# EAGLE library part OSDZU3EG1-2G-BFA (library Octavo-Systems OSDZU3)
Octavo Systems LLC OSDZU3x Family SiP; 20.5mm x 40mm, 1mm pitch 600 pin BGA contains Xilinx XCZU3EG1, 2GB DDR4, two IRPS5401, 32MB QSPI NOR Flash (3.3V), MEMS Oscillator, RTC Crystal and passives; Commercial Temperature (case): 0C to 85C.
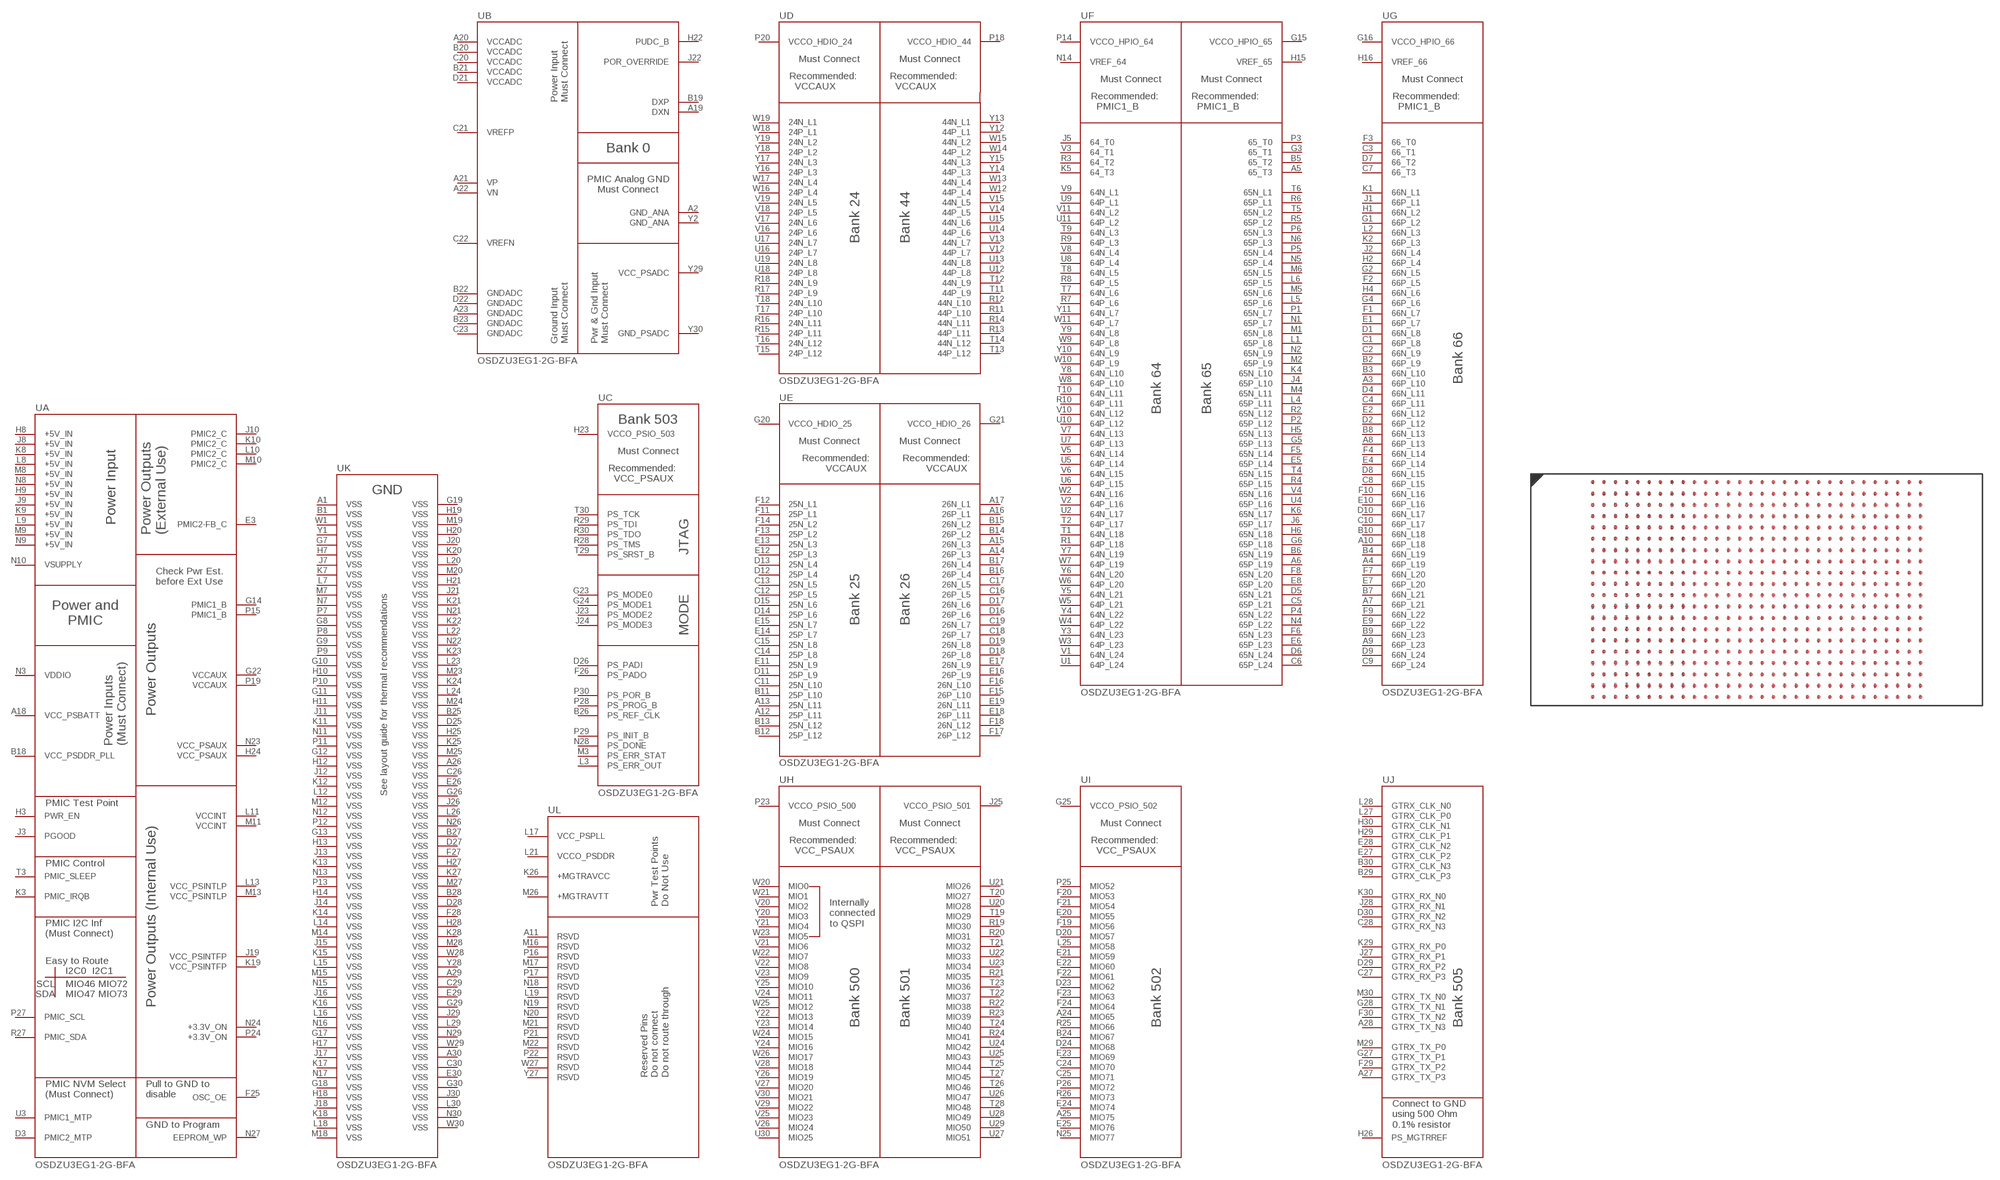
[diagram p12: symbol with the pads of OSDZU3X-BGA-600; footprint OSDZU3X-BGA-600]

Designator prefix U; gates A=OSDZU3X-LOGICAL-A B=OSDZU3X-LOGICAL-B C=OSDZU3X-LOGICAL-C D=OSDZU3X-LOGICAL-D E=OSDZU3X-LOGICAL-E F=OSDZU3X-LOGICAL-F G=OSDZU3X-LOGICAL-G H=OSDZU3X-LOGICAL-H I=OSDZU3X-LOGICAL-I J=OSDZU3X-LOGICAL-J K=OSDZU3X-LOGICAL-K L=OSDZU3X-LOGICAL-L

## OSDZU3EG1-2G-BFA  [OSDZU3X-BGA-600]
A1  K:VSS
A2  B:GND_ANA
A3  G:66P_L10
A4  G:66P_L19
A5  F:65_T3
A6  F:65P_L19
A7  G:66P_L21
A8  G:66P_L13
A9  G:66P_L23
A10  G:66P_L18
A11  L:RSVD
A12  E:25P_L11
A13  E:25N_L11
A14  E:26P_L3
A15  E:26N_L3
A16  E:26P_L1
A17  E:26N_L1
A18  A:VCC_PSBATT
A19  B:DXN
A20  B:VCCADC
A21  B:VP
A22  B:VN
A23  B:GNDADC
A24  I:MIO65
A25  I:MIO75
A26  K:VSS
A27  J:GTRX_TX_P3
A28  J:GTRX_TX_N3
A29  K:VSS
A30  K:VSS
B1  K:VSS
B2  G:66P_L9
B3  G:66N_L10
B4  G:66N_L19
B5  F:65_T2
B6  F:65N_L19
B7  G:66N_L21
B8  G:66N_L13
B9  G:66N_L23
B10  G:66N_L18
B11  E:25P_L10
B12  E:25P_L12
B13  E:25N_L12
B14  E:26P_L2
B15  E:26N_L2
B16  E:26P_L4
B17  E:26N_L4
B18  A:VCC_PSDDR_PLL
B19  B:DXP
B20  B:VCCADC
B21  B:VCCADC
B22  B:GNDADC
B23  B:GNDADC
B24  I:MIO67
B25  K:VSS
B26  C:PS_REF_CLK
B27  K:VSS
B28  K:VSS
B29  J:GTRX_CLK_P3
B30  J:GTRX_CLK_N3
C1  G:66P_L8
C2  G:66N_L9
C3  G:66_T1
C4  G:66P_L11
C5  F:65P_L21
C6  F:65P_L24
C7  G:66_T3
C8  G:66P_L15
C9  G:66P_L24
C10  G:66P_L17
C11  E:25N_L10
C12  E:25P_L5
C13  E:25N_L5
C14  E:25P_L8
C15  E:25N_L8
C16  E:26P_L5
C17  E:26N_L5
C18  E:26P_L7
C19  E:26N_L7
C20  B:VCCADC
C21  B:VREFP
C22  B:VREFN
C23  B:GNDADC
C24  I:MIO70
C25  I:MIO71
C26  K:VSS
C27  J:GTRX_RX_P3
C28  J:GTRX_RX_N3
C29  K:VSS
C30  K:VSS
D1  G:66N_L8
D2  G:66P_L12
D3  A:PMIC2_MTP
D4  G:66N_L11
D5  F:65N_L21
D6  F:65N_L24
D7  G:66_T2
D8  G:66N_L15
D9  G:66N_L24
D10  G:66N_L17
D11  E:25P_L9
D12  E:25P_L4
D13  E:25N_L4
D14  E:25P_L6
D15  E:25N_L6
D16  E:26P_L6
D17  E:26N_L6
D18  E:26P_L8
D19  E:26N_L8
D20  I:MIO57
D21  B:VCCADC
D22  B:GNDADC
D23  I:MIO62
D24  I:MIO68
D25  K:VSS
D26  C:PS_PADI
D27  K:VSS
D28  K:VSS
D29  J:GTRX_RX_P2
D30  J:GTRX_RX_N2
E1  G:66P_L7
E2  G:66N_L12
E3  A:PMIC2-FB_C
E4  G:66P_L14
E5  F:65P_L14
E6  F:65P_L23
E7  G:66P_L20
E8  F:65P_L20
E9  G:66P_L22
E10  G:66P_L16
E11  E:25N_L9
E12  E:25P_L3
E13  E:25N_L3
E14  E:25P_L7
E15  E:25N_L7
E16  E:26P_L9
E17  E:26N_L9
E18  E:26P_L11
E19  E:26N_L11
E20  I:MIO55
E21  I:MIO59
E22  I:MIO60
E23  I:MIO69
E24  I:MIO74
E25  I:MIO76
E26  K:VSS
E27  J:GTRX_CLK_P2
E28  J:GTRX_CLK_N2
E29  K:VSS
E30  K:VSS
F1  G:66N_L7
F2  G:66P_L5
F3  G:66_T0
F4  G:66N_L14
F5  F:65N_L14
F6  F:65N_L23
F7  G:66N_L20
F8  F:65N_L20
F9  G:66N_L22
F10  G:66N_L16
F11  E:25P_L1
F12  E:25N_L1
F13  E:25P_L2
F14  E:25N_L2
F15  E:26P_L10
F16  E:26N_L10
F17  E:26P_L12
F18  E:26N_L12
F19  I:MIO56
F20  I:MIO53
F21  I:MIO54
F22  I:MIO61
F23  I:MIO63
F24  I:MIO64
F25  A:OSC_OE
F26  C:PS_PADO
F27  K:VSS
F28  K:VSS
F29  J:GTRX_TX_P2
F30  J:GTRX_TX_N2
G1  G:66P_L2
G2  G:66N_L5
G3  F:65_T1
G4  G:66P_L6
G5  F:65P_L13
G6  F:65P_L18
G7  K:VSS
G8  K:VSS
G9  K:VSS
G10  K:VSS
G11  K:VSS
G12  K:VSS
G13  K:VSS
G14  A:PMIC1_B
G15  F:VCCO_HPIO_65
G16  G:VCCO_HPIO_66
G17  K:VSS
G18  K:VSS
G19  K:VSS
G20  E:VCCO_HDIO_25
G21  E:VCCO_HDIO_26  pwr
G22  A:VCCAUX
G23  C:PS_MODE0
G24  C:PS_MODE1
G25  I:VCCO_PSIO_502
G26  K:VSS
G27  J:GTRX_TX_P1
G28  J:GTRX_TX_N1
G29  K:VSS
G30  K:VSS
H1  G:66N_L2
H2  G:66P_L4
H3  A:PWR_EN
H4  G:66N_L6
H5  F:65N_L13
H6  F:65N_L18
H7  K:VSS
H8  A:+5V_IN
H9  A:+5V_IN
H10  K:VSS
H11  K:VSS
H12  K:VSS
H13  K:VSS
H14  K:VSS
H15  F:VREF_65
H16  G:VREF_66
H17  K:VSS
H18  K:VSS
H19  K:VSS
H20  K:VSS
H21  K:VSS
H22  B:PUDC_B
H23  C:VCCO_PSIO_503
H24  A:VCC_PSAUX
H25  K:VSS
H26  J:PS_MGTRREF
H27  K:VSS
H28  K:VSS
H29  J:GTRX_CLK_P1
H30  J:GTRX_CLK_N1
J1  G:66P_L1
J2  G:66N_L4
J3  A:PGOOD
J4  F:65P_L10
J5  F:64_T0
J6  F:65P_L17
J7  K:VSS
J8  A:+5V_IN
J9  A:+5V_IN
J10  A:PMIC2_C
J11  K:VSS
J12  K:VSS
J13  K:VSS
J14  K:VSS
J15  K:VSS
J16  K:VSS
J17  K:VSS
J18  K:VSS
J19  A:VCC_PSINTFP
J20  K:VSS
J21  K:VSS
J22  B:POR_OVERRIDE
J23  C:PS_MODE2
J24  C:PS_MODE3
J25  H:VCCO_PSIO_501
J26  K:VSS
J27  J:GTRX_RX_P1
J28  J:GTRX_RX_N1
J29  K:VSS
J30  K:VSS
K1  G:66N_L1
K2  G:66P_L3
K3  A:PMIC_IRQB
K4  F:65N_L10
K5  F:64_T3
K6  F:65N_L17
K7  K:VSS
K8  A:+5V_IN
K9  A:+5V_IN
K10  A:PMIC2_C
K11  K:VSS
K12  K:VSS
K13  K:VSS
K14  K:VSS
K15  K:VSS
K16  K:VSS
K17  K:VSS
K18  K:VSS
K19  A:VCC_PSINTFP
K20  K:VSS
K21  K:VSS
K22  K:VSS
K23  K:VSS
K24  K:VSS
K25  K:VSS
K26  L:+MGTRAVCC
K27  K:VSS
K28  K:VSS
K29  J:GTRX_RX_P0
K30  J:GTRX_RX_N0
L1  F:65P_L8
L2  G:66N_L3
L3  C:PS_ERR_OUT
L4  F:65P_L11
L5  F:65P_L6
L6  F:65P_L5
L7  K:VSS
L8  A:+5V_IN
L9  A:+5V_IN
L10  A:PMIC2_C
L11  A:VCCINT
L12  K:VSS
L13  A:VCC_PSINTLP
L14  K:VSS
L15  K:VSS
L16  K:VSS
L17  L:VCC_PSPLL
L18  K:VSS
L19  L:RSVD
L20  K:VSS
L21  L:VCCO_PSDDR
L22  K:VSS
L23  K:VSS
L24  K:VSS
L25  I:MIO58
L26  K:VSS
L27  J:GTRX_CLK_P0
L28  J:GTRX_CLK_N0
L29  K:VSS
L30  K:VSS
M1  F:65N_L8
M2  F:65P_L9
M3  C:PS_ERR_STAT
M4  F:65N_L11
M5  F:65N_L6
M6  F:65N_L5
M7  K:VSS
M8  A:+5V_IN
M9  A:+5V_IN
M10  A:PMIC2_C
M11  A:VCCINT
M12  K:VSS
M13  A:VCC_PSINTLP
M14  K:VSS
M15  K:VSS
M16  L:RSVD
M17  L:RSVD
M18  K:VSS
M19  K:VSS
M20  K:VSS
M21  L:RSVD
M22  L:RSVD
M23  K:VSS
M24  K:VSS
M25  K:VSS
M26  L:+MGTRAVTT
M27  K:VSS
M28  K:VSS
M29  J:GTRX_TX_P0
M30  J:GTRX_TX_N0
N1  F:65P_L7
N2  F:65N_L9
N3  A:VDDIO
N4  F:65P_L22
N5  F:65P_L4
N6  F:65P_L3
N7  K:VSS
N8  A:+5V_IN
N9  A:+5V_IN
N10  A:VSUPPLY
N11  K:VSS
N12  K:VSS
N13  K:VSS
N14  F:VREF_64
N15  K:VSS
N16  K:VSS
N17  K:VSS
N18  L:RSVD
N19  L:RSVD
N20  L:RSVD
N21  K:VSS
N22  K:VSS
N23  A:VCC_PSAUX
N24  A:+3.3V_ON
N25  I:MIO77
N26  K:VSS
N27  A:EEPROM_WP
N28  C:PS_DONE
N29  K:VSS
N30  K:VSS
P1  F:65N_L7
P2  F:65P_L12
P3  F:65_T0
P4  F:65N_L22
P5  F:65N_L4
P6  F:65N_L3
P7  K:VSS
P8  K:VSS
P9  K:VSS
P10  K:VSS
P11  K:VSS
P12  K:VSS
P13  K:VSS
P14  F:VCCO_HPIO_64
P15  A:PMIC1_B
P16  L:RSVD
P17  L:RSVD
P18  D:VCCO_HDIO_44
P19  A:VCCAUX
P20  D:VCCO_HDIO_24  pwr
P21  L:RSVD
P22  L:RSVD
P23  H:VCCO_PSIO_500
P24  A:+3.3V_ON
P25  I:MIO52
P26  I:MIO72
P27  A:PMIC_SCL
P28  C:PS_PROG_B
P29  C:PS_INIT_B
P30  C:PS_POR_B
R1  F:64P_L18
R2  F:65N_L12
R3  F:64_T2
R4  F:65P_L15
R5  F:65P_L2
R6  F:65P_L1
R7  F:64P_L6
R8  F:64P_L5
R9  F:64P_L3
R10  F:64P_L11
R11  D:44P_L10
R12  D:44N_L10
R13  D:44P_L11
R14  D:44N_L11
R15  D:24P_L11
R16  D:24N_L11
R17  D:24P_L9
R18  D:24N_L9
R19  H:MIO30
R20  H:MIO31
R21  H:MIO35
R22  H:MIO38
R23  H:MIO39
R24  H:MIO41
R25  I:MIO66
R26  I:MIO73
R27  A:PMIC_SDA
R28  C:PS_TMS
R29  C:PS_TDI
R30  C:PS_TDO
T1  F:64N_L18
T2  F:64P_L17
T3  A:PMIC_SLEEP
T4  F:65N_L15
T5  F:65N_L2
T6  F:65N_L1
T7  F:64N_L6
T8  F:64N_L5
T9  F:64N_L3
T10  F:64N_L11
T11  D:44P_L9
T12  D:44N_L9
T13  D:44P_L12
T14  D:44N_L12
T15  D:24P_L12
T16  D:24N_L12
T17  D:24P_L10
T18  D:24N_L10
T19  H:MIO29
T20  H:MIO27
T21  H:MIO32
T22  H:MIO37
T23  H:MIO36
T24  H:MIO40
T25  H:MIO44
T26  H:MIO46
T27  H:MIO45
T28  H:MIO48
T29  C:PS_SRST_B
T30  C:PS_TCK
U1  F:64P_L24
U2  F:64N_L17
U3  A:PMIC1_MTP
U4  F:65P_L16
U5  F:64P_L14
U6  F:64P_L15
U7  F:64P_L13
U8  F:64P_L4
U9  F:64P_L1
U10  F:64P_L12
U11  F:64P_L2
U12  D:44P_L8
U13  D:44N_L8
U14  D:44P_L6
U15  D:44N_L6
U16  D:24P_L7
U17  D:24N_L7
U18  D:24P_L8
U19  D:24N_L8
U20  H:MIO28
U21  H:MIO26
U22  H:MIO33
U23  H:MIO34
U24  H:MIO42
U25  H:MIO43
U26  H:MIO47
U27  H:MIO51
U28  H:MIO49
U29  H:MIO50
U30  H:MIO25
V1  F:64N_L24
V2  F:64P_L16
V3  F:64_T1
V4  F:65N_L16
V5  F:64N_L14
V6  F:64N_L15
V7  F:64N_L13
V8  F:64N_L4
V9  F:64N_L1
V10  F:64N_L12
V11  F:64N_L2
V12  D:44P_L7
V13  D:44N_L7
V14  D:44P_L5
V15  D:44N_L5
V16  D:24P_L6
V17  D:24N_L6
V18  D:24P_L5
V19  D:24N_L5
V20  H:MIO2
V21  H:MIO6
V22  H:MIO8
V23  H:MIO9
V24  H:MIO11
V25  H:MIO23
V26  H:MIO24
V27  H:MIO20
V28  H:MIO18
V29  H:MIO22
V30  H:MIO21
W1  K:VSS
W2  F:64N_L16
W3  F:64P_L23
W4  F:64P_L22
W5  F:64P_L21
W6  F:64P_L20
W7  F:64P_L19
W8  F:64P_L10
W9  F:64P_L8
W10  F:64P_L9
W11  F:64P_L7
W12  D:44P_L4
W13  D:44N_L4
W14  D:44P_L2
W15  D:44N_L2
W16  D:24P_L4
W17  D:24N_L4
W18  D:24P_L1
W19  D:24N_L1
W20  H:MIO0
W21  H:MIO1
W22  H:MIO7
W23  H:MIO5
W24  H:MIO15
W25  H:MIO12
W26  H:MIO17
W27  L:RSVD
W28  K:VSS
W29  K:VSS
W30  K:VSS
Y1  K:VSS
Y2  B:GND_ANA
Y3  F:64N_L23
Y4  F:64N_L22
Y5  F:64N_L21
Y6  F:64N_L20
Y7  F:64N_L19
Y8  F:64N_L10
Y9  F:64N_L8
Y10  F:64N_L9
Y11  F:64N_L7
Y12  D:44P_L1
Y13  D:44N_L1
Y14  D:44P_L3
Y15  D:44N_L3
Y16  D:24P_L3
Y17  D:24N_L3
Y18  D:24P_L2
Y19  D:24N_L2
Y20  H:MIO3
Y21  H:MIO4
Y22  H:MIO13
Y23  H:MIO14
Y24  H:MIO16
Y25  H:MIO10
Y26  H:MIO19
Y27  L:RSVD
Y28  K:VSS
Y29  B:VCC_PSADC
Y30  B:GND_PSADC

## Footprint OSDZU3X-BGA-600 (pad centres in mm)
smd 0.35 x 0.35: A1 -14.5,9.5; A2 -13.5,9.5; A3 -12.5,9.5; A4 -11.5,9.5; A5 -10.5,9.5; A6 -9.5,9.5; A7 -8.5,9.5; A8 -7.5,9.5; A9 -6.5,9.5; A10 -5.5,9.5; A11 -4.5,9.5; A12 -3.5,9.5; A13 -2.5,9.5; A14 -1.5,9.5; A15 -0.5,9.5; A16 0.5,9.5; A17 1.5,9.5; A18 2.5,9.5; A19 3.5,9.5; A20 4.5,9.5; A21 5.5,9.5; A22 6.5,9.5; A23 7.5,9.5; A24 8.5,9.5; A25 9.5,9.5; A26 10.5,9.5; A27 11.5,9.5; A28 12.5,9.5; A29 13.5,9.5; A30 14.5,9.5; B1 -14.5,8.5; B2 -13.5,8.5; B3 -12.5,8.5; B4 -11.5,8.5; B5 -10.5,8.5; B6 -9.5,8.5; B7 -8.5,8.5; B8 -7.5,8.5; B9 -6.5,8.5; B10 -5.5,8.5; B11 -4.5,8.5; B12 -3.5,8.5; B13 -2.5,8.5; B14 -1.5,8.5; B15 -0.5,8.5; B16 0.5,8.5; B17 1.5,8.5; B18 2.5,8.5; B19 3.5,8.5; B20 4.5,8.5; B21 5.5,8.5; B22 6.5,8.5; B23 7.5,8.5; B24 8.5,8.5; B25 9.5,8.5; B26 10.5,8.5; B27 11.5,8.5; B28 12.5,8.5; B29 13.5,8.5; B30 14.5,8.5; C1 -14.5,7.5; C2 -13.5,7.5; C3 -12.5,7.5; C4 -11.5,7.5; C5 -10.5,7.5; C6 -9.5,7.5; C7 -8.5,7.5; C8 -7.5,7.5; C9 -6.5,7.5; C10 -5.5,7.5; C11 -4.5,7.5; C12 -3.5,7.5; C13 -2.5,7.5; C14 -1.5,7.5; C15 -0.5,7.5; C16 0.5,7.5; C17 1.5,7.5; C18 2.5,7.5; C19 3.5,7.5; C20 4.5,7.5; C21 5.5,7.5; C22 6.5,7.5; C23 7.5,7.5; C24 8.5,7.5; C25 9.5,7.5; C26 10.5,7.5; C27 11.5,7.5; C28 12.5,7.5; C29 13.5,7.5; C30 14.5,7.5; D1 -14.5,6.5; D2 -13.5,6.5; D3 -12.5,6.5; D4 -11.5,6.5; D5 -10.5,6.5; D6 -9.5,6.5; D7 -8.5,6.5; D8 -7.5,6.5; D9 -6.5,6.5; D10 -5.5,6.5; D11 -4.5,6.5; D12 -3.5,6.5; D13 -2.5,6.5; D14 -1.5,6.5; D15 -0.5,6.5; D16 0.5,6.5; D17 1.5,6.5; D18 2.5,6.5; D19 3.5,6.5; D20 4.5,6.5; D21 5.5,6.5; D22 6.5,6.5; D23 7.5,6.5; D24 8.5,6.5; D25 9.5,6.5; D26 10.5,6.5; D27 11.5,6.5; D28 12.5,6.5; D29 13.5,6.5; D30 14.5,6.5; E1 -14.5,5.5; E2 -13.5,5.5; E3 -12.5,5.5; E4 -11.5,5.5; E5 -10.5,5.5; E6 -9.5,5.5; E7 -8.5,5.5; E8 -7.5,5.5; E9 -6.5,5.5; E10 -5.5,5.5; E11 -4.5,5.5; E12 -3.5,5.5; E13 -2.5,5.5; E14 -1.5,5.5; E15 -0.5,5.5; E16 0.5,5.5; E17 1.5,5.5; E18 2.5,5.5; E19 3.5,5.5; E20 4.5,5.5; E21 5.5,5.5; E22 6.5,5.5; E23 7.5,5.5; E24 8.5,5.5; E25 9.5,5.5; E26 10.5,5.5; E27 11.5,5.5; E28 12.5,5.5; E29 13.5,5.5; E30 14.5,5.5; F1 -14.5,4.5; F2 -13.5,4.5; F3 -12.5,4.5; F4 -11.5,4.5; F5 -10.5,4.5; F6 -9.5,4.5; F7 -8.5,4.5; F8 -7.5,4.5; F9 -6.5,4.5; F10 -5.5,4.5; F11 -4.5,4.5; F12 -3.5,4.5; F13 -2.5,4.5; F14 -1.5,4.5; F15 -0.5,4.5; F16 0.5,4.5; F17 1.5,4.5; F18 2.5,4.5; F19 3.5,4.5; F20 4.5,4.5; F21 5.5,4.5; F22 6.5,4.5; F23 7.5,4.5; F24 8.5,4.5; F25 9.5,4.5; F26 10.5,4.5; F27 11.5,4.5; F28 12.5,4.5; F29 13.5,4.5; F30 14.5,4.5; G1 -14.5,3.5; G2 -13.5,3.5; G3 -12.5,3.5; G4 -11.5,3.5; G5 -10.5,3.5; G6 -9.5,3.5; G7 -8.5,3.5; G8 -7.5,3.5; G9 -6.5,3.5; G10 -5.5,3.5; G11 -4.5,3.5; G12 -3.5,3.5; G13 -2.5,3.5; G14 -1.5,3.5; G15 -0.5,3.5; G16 0.5,3.5; G17 1.5,3.5; G18 2.5,3.5; G19 3.5,3.5; G20 4.5,3.5; G21 5.5,3.5; G22 6.5,3.5; G23 7.5,3.5; G24 8.5,3.5; G25 9.5,3.5; G26 10.5,3.5; G27 11.5,3.5; G28 12.5,3.5; G29 13.5,3.5; G30 14.5,3.5; H1 -14.5,2.5; H2 -13.5,2.5; H3 -12.5,2.5; H4 -11.5,2.5; H5 -10.5,2.5; H6 -9.5,2.5; H7 -8.5,2.5; H8 -7.5,2.5; H9 -6.5,2.5; H10 -5.5,2.5; H11 -4.5,2.5; H12 -3.5,2.5; H13 -2.5,2.5; H14 -1.5,2.5; H15 -0.5,2.5; H16 0.5,2.5; H17 1.5,2.5; H18 2.5,2.5; H19 3.5,2.5; H20 4.5,2.5; H21 5.5,2.5; H22 6.5,2.5; H23 7.5,2.5; H24 8.5,2.5; H25 9.5,2.5; H26 10.5,2.5; H27 11.5,2.5; H28 12.5,2.5; H29 13.5,2.5; H30 14.5,2.5; J1 -14.5,1.5; J2 -13.5,1.5; J3 -12.5,1.5; J4 -11.5,1.5; J5 -10.5,1.5; J6 -9.5,1.5; J7 -8.5,1.5; J8 -7.5,1.5; J9 -6.5,1.5; J10 -5.5,1.5; J11 -4.5,1.5; J12 -3.5,1.5; J13 -2.5,1.5; J14 -1.5,1.5; J15 -0.5,1.5; J16 0.5,1.5; J17 1.5,1.5; J18 2.5,1.5; J19 3.5,1.5; J20 4.5,1.5; J21 5.5,1.5; J22 6.5,1.5; J23 7.5,1.5; J24 8.5,1.5; J25 9.5,1.5; J26 10.5,1.5; J27 11.5,1.5; J28 12.5,1.5; J29 13.5,1.5; J30 14.5,1.5; K1 -14.5,0.5; K2 -13.5,0.5; K3 -12.5,0.5; K4 -11.5,0.5; K5 -10.5,0.5; K6 -9.5,0.5; K7 -8.5,0.5; K8 -7.5,0.5; K9 -6.5,0.5; K10 -5.5,0.5; K11 -4.5,0.5; K12 -3.5,0.5; K13 -2.5,0.5; K14 -1.5,0.5; K15 -0.5,0.5; K16 0.5,0.5; K17 1.5,0.5; K18 2.5,0.5; K19 3.5,0.5; K20 4.5,0.5; K21 5.5,0.5; K22 6.5,0.5; K23 7.5,0.5; K24 8.5,0.5; K25 9.5,0.5; K26 10.5,0.5; K27 11.5,0.5; K28 12.5,0.5; K29 13.5,0.5; K30 14.5,0.5; L1 -14.5,-0.5; L2 -13.5,-0.5; L3 -12.5,-0.5; L4 -11.5,-0.5; L5 -10.5,-0.5; L6 -9.5,-0.5; L7 -8.5,-0.5; L8 -7.5,-0.5; L9 -6.5,-0.5; L10 -5.5,-0.5; L11 -4.5,-0.5; L12 -3.5,-0.5; L13 -2.5,-0.5; L14 -1.5,-0.5; L15 -0.5,-0.5; L16 0.5,-0.5; L17 1.5,-0.5; L18 2.5,-0.5; L19 3.5,-0.5; L20 4.5,-0.5; L21 5.5,-0.5; L22 6.5,-0.5; L23 7.5,-0.5; L24 8.5,-0.5; L25 9.5,-0.5; L26 10.5,-0.5; L27 11.5,-0.5; L28 12.5,-0.5; L29 13.5,-0.5; L30 14.5,-0.5; M1 -14.5,-1.5; M2 -13.5,-1.5; M3 -12.5,-1.5; M4 -11.5,-1.5; M5 -10.5,-1.5; M6 -9.5,-1.5; M7 -8.5,-1.5; M8 -7.5,-1.5; M9 -6.5,-1.5; M10 -5.5,-1.5; M11 -4.5,-1.5; M12 -3.5,-1.5; M13 -2.5,-1.5; M14 -1.5,-1.5; M15 -0.5,-1.5; M16 0.5,-1.5; M17 1.5,-1.5; M18 2.5,-1.5; M19 3.5,-1.5; M20 4.5,-1.5; M21 5.5,-1.5; M22 6.5,-1.5; M23 7.5,-1.5; M24 8.5,-1.5; M25 9.5,-1.5; M26 10.5,-1.5; M27 11.5,-1.5; M28 12.5,-1.5; M29 13.5,-1.5; M30 14.5,-1.5; N1 -14.5,-2.5; N2 -13.5,-2.5; N3 -12.5,-2.5; N4 -11.5,-2.5; N5 -10.5,-2.5; N6 -9.5,-2.5; N7 -8.5,-2.5; N8 -7.5,-2.5; N9 -6.5,-2.5; N10 -5.5,-2.5; N11 -4.5,-2.5; N12 -3.5,-2.5; N13 -2.5,-2.5; N14 -1.5,-2.5; N15 -0.5,-2.5; N16 0.5,-2.5; N17 1.5,-2.5; N18 2.5,-2.5; N19 3.5,-2.5; N20 4.5,-2.5; N21 5.5,-2.5; N22 6.5,-2.5; N23 7.5,-2.5; N24 8.5,-2.5; N25 9.5,-2.5; N26 10.5,-2.5; N27 11.5,-2.5; N28 12.5,-2.5; N29 13.5,-2.5; N30 14.5,-2.5; P1 -14.5,-3.5; P2 -13.5,-3.5; P3 -12.5,-3.5; P4 -11.5,-3.5; P5 -10.5,-3.5; P6 -9.5,-3.5; P7 -8.5,-3.5; P8 -7.5,-3.5; P9 -6.5,-3.5; P10 -5.5,-3.5; P11 -4.5,-3.5; P12 -3.5,-3.5; P13 -2.5,-3.5; P14 -1.5,-3.5; P15 -0.5,-3.5; P16 0.5,-3.5; P17 1.5,-3.5; P18 2.5,-3.5; P19 3.5,-3.5; P20 4.5,-3.5; P21 5.5,-3.5; P22 6.5,-3.5; P23 7.5,-3.5; P24 8.5,-3.5; P25 9.5,-3.5; P26 10.5,-3.5; P27 11.5,-3.5; P28 12.5,-3.5; P29 13.5,-3.5; P30 14.5,-3.5; R1 -14.5,-4.5; R2 -13.5,-4.5; R3 -12.5,-4.5; R4 -11.5,-4.5; R5 -10.5,-4.5; R6 -9.5,-4.5; R7 -8.5,-4.5; R8 -7.5,-4.5; R9 -6.5,-4.5; R10 -5.5,-4.5; R11 -4.5,-4.5; R12 -3.5,-4.5; R13 -2.5,-4.5; R14 -1.5,-4.5; R15 -0.5,-4.5; R16 0.5,-4.5; R17 1.5,-4.5; R18 2.5,-4.5; R19 3.5,-4.5; R20 4.5,-4.5; R21 5.5,-4.5; R22 6.5,-4.5; R23 7.5,-4.5; R24 8.5,-4.5; R25 9.5,-4.5; R26 10.5,-4.5; R27 11.5,-4.5; R28 12.5,-4.5; R29 13.5,-4.5; R30 14.5,-4.5; T1 -14.5,-5.5; T2 -13.5,-5.5; T3 -12.5,-5.5; T4 -11.5,-5.5; T5 -10.5,-5.5; T6 -9.5,-5.5; T7 -8.5,-5.5; T8 -7.5,-5.5; T9 -6.5,-5.5; T10 -5.5,-5.5; T11 -4.5,-5.5; T12 -3.5,-5.5; T13 -2.5,-5.5; T14 -1.5,-5.5; T15 -0.5,-5.5; T16 0.5,-5.5; T17 1.5,-5.5; T18 2.5,-5.5; T19 3.5,-5.5; T20 4.5,-5.5; T21 5.5,-5.5; T22 6.5,-5.5; T23 7.5,-5.5; T24 8.5,-5.5; T25 9.5,-5.5; T26 10.5,-5.5; T27 11.5,-5.5; T28 12.5,-5.5; T29 13.5,-5.5; T30 14.5,-5.5; U1 -14.5,-6.5; U2 -13.5,-6.5; U3 -12.5,-6.5; U4 -11.5,-6.5; U5 -10.5,-6.5; U6 -9.5,-6.5; U7 -8.5,-6.5; U8 -7.5,-6.5; U9 -6.5,-6.5; U10 -5.5,-6.5; U11 -4.5,-6.5; U12 -3.5,-6.5; U13 -2.5,-6.5; U14 -1.5,-6.5; U15 -0.5,-6.5; U16 0.5,-6.5; U17 1.5,-6.5; U18 2.5,-6.5; U19 3.5,-6.5; U20 4.5,-6.5; U21 5.5,-6.5; U22 6.5,-6.5; U23 7.5,-6.5; U24 8.5,-6.5; U25 9.5,-6.5; U26 10.5,-6.5; U27 11.5,-6.5; U28 12.5,-6.5; U29 13.5,-6.5; U30 14.5,-6.5; V1 -14.5,-7.5; V2 -13.5,-7.5; V3 -12.5,-7.5; V4 -11.5,-7.5; V5 -10.5,-7.5; V6 -9.5,-7.5; V7 -8.5,-7.5; V8 -7.5,-7.5; V9 -6.5,-7.5; V10 -5.5,-7.5; V11 -4.5,-7.5; V12 -3.5,-7.5; V13 -2.5,-7.5; V14 -1.5,-7.5; V15 -0.5,-7.5; V16 0.5,-7.5; V17 1.5,-7.5; V18 2.5,-7.5; V19 3.5,-7.5; V20 4.5,-7.5; V21 5.5,-7.5; V22 6.5,-7.5; V23 7.5,-7.5; V24 8.5,-7.5; V25 9.5,-7.5; V26 10.5,-7.5; V27 11.5,-7.5; V28 12.5,-7.5; V29 13.5,-7.5; V30 14.5,-7.5; W1 -14.5,-8.5; W2 -13.5,-8.5; W3 -12.5,-8.5; W4 -11.5,-8.5; W5 -10.5,-8.5; W6 -9.5,-8.5; W7 -8.5,-8.5; W8 -7.5,-8.5; W9 -6.5,-8.5; W10 -5.5,-8.5; W11 -4.5,-8.5; W12 -3.5,-8.5; W13 -2.5,-8.5; W14 -1.5,-8.5; W15 -0.5,-8.5; W16 0.5,-8.5; W17 1.5,-8.5; W18 2.5,-8.5; W19 3.5,-8.5; W20 4.5,-8.5; W21 5.5,-8.5; W22 6.5,-8.5; W23 7.5,-8.5; W24 8.5,-8.5; W25 9.5,-8.5; W26 10.5,-8.5; W27 11.5,-8.5; W28 12.5,-8.5; W29 13.5,-8.5; W30 14.5,-8.5; Y1 -14.5,-9.5; Y2 -13.5,-9.5; Y3 -12.5,-9.5; Y4 -11.5,-9.5; Y5 -10.5,-9.5; Y6 -9.5,-9.5; Y7 -8.5,-9.5; Y8 -7.5,-9.5; Y9 -6.5,-9.5; Y10 -5.5,-9.5; Y11 -4.5,-9.5; Y12 -3.5,-9.5; Y13 -2.5,-9.5; Y14 -1.5,-9.5; Y15 -0.5,-9.5; Y16 0.5,-9.5; Y17 1.5,-9.5; Y18 2.5,-9.5; Y19 3.5,-9.5; Y20 4.5,-9.5; Y21 5.5,-9.5; Y22 6.5,-9.5; Y23 7.5,-9.5; Y24 8.5,-9.5; Y25 9.5,-9.5; Y26 10.5,-9.5; Y27 11.5,-9.5; Y28 12.5,-9.5; Y29 13.5,-9.5; Y30 14.5,-9.5